# Altium footprint library 36783-1201.PcbLib: 1 footprints
Each footprint in its own frame and in the unit in brackets; x right, y up, seen from the top. Pads: shape width x height; smd on the part's side, far side on the other; paste and mask are expansions set on the pad; w line width, h text height; cw(c..) or ccw(c..) is an arc to the next point about the centre after c.
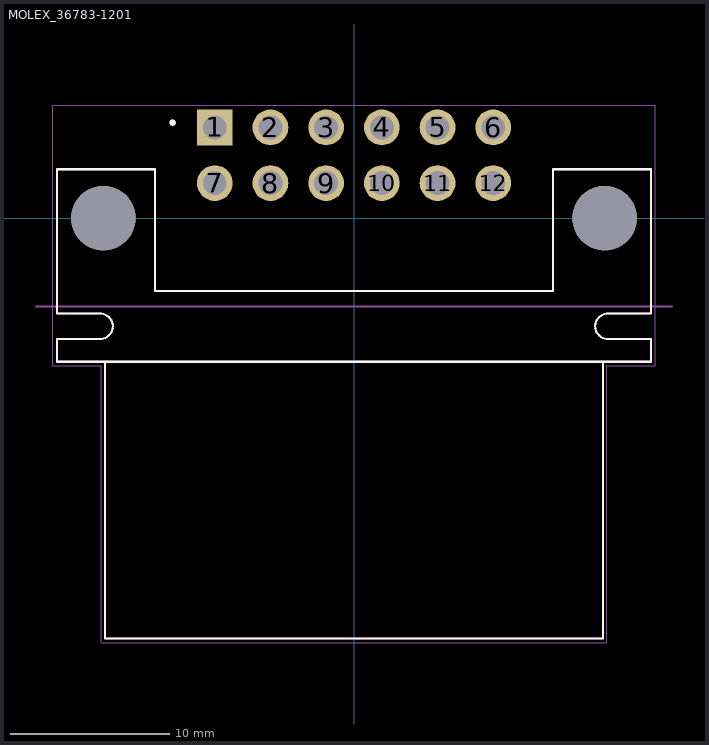
[diagram p0: the footprint, top view; thin cyan lines are the x and y axes]

## MOLEX_36783-1201 [mm]
pads (14):
  rect 2.25x2.25 hole 1.5: 1(-8.75,5.7)
  round 2.25 hole 1.5: 2(-5.25,5.7) 3(-1.75,5.7) 4(1.75,5.7) 5(5.25,5.7) 6(8.75,5.7) 7(-8.75,2.2) 8(-5.25,2.2) 9(-1.75,2.2) 10(1.75,2.2) 11(5.25,2.2) 12(8.75,2.2)
  round 4.05 hole 4.05 unplated: ""(-15.75,0) ""(15.75,0)
Top Overlay:
  circle w0.2: c-11.4,6 r0.1
  lines w0.127: -16.004,-7.6 ccw(c-15.975,-6.775) -15.15,-6.804 ; -16.004,-6 cw(c-15.975,-6.825) -15.15,-6.796 ; -16,-7.6 -18.675,-7.6 -18.675,-9.03 -15.65,-9.03 ; -16,-6 -18.675,-6 -18.675,3.07 -12.5,3.07 -12.5,-4.57 12.5,-4.57 12.5,3.07 18.675,3.07 18.675,-6 16,-6 ; 15.15,-6.804 ccw(c15.975,-6.775) 16.004,-7.6 ; 15.15,-6.796 cw(c15.975,-6.825) 16.004,-6 ; 16,-7.6 18.675,-7.6 18.675,-9.03 15.65,-9.03 ; -15.65,-9.03 15.65,-9.03 ; -15.65,-9.03 -15.65,-26.43 15.65,-26.43 15.65,-9.03
Mechanical 13:
  circle w0.2: c-11.4,6 r0.1
  lines w0.127: -20,-5.55 20,-5.55 ; -16.004,-7.6 ccw(c-15.975,-6.775) -15.15,-6.804 ; -16.004,-6 cw(c-15.975,-6.825) -15.15,-6.796 ; -16,-7.6 -18.675,-7.6 -18.675,-9.03 -15.65,-9.03 ; -16,-6 -18.675,-6 -18.675,3.07 -12.5,3.07 -12.5,-4.57 12.5,-4.57 12.5,3.07 18.675,3.07 18.675,-6 16,-6 ; 15.15,-6.804 ccw(c15.975,-6.775) 16.004,-7.6 ; 15.15,-6.796 cw(c15.975,-6.825) 16.004,-6 ; 16,-7.6 18.675,-7.6 18.675,-9.03 15.65,-9.03 ; -15.65,-9.03 15.65,-9.03 ; -15.65,-9.03 -15.65,-26.43 15.65,-26.43 15.65,-9.03
Mechanical 15:
  lines w0.05: -18.925,-9.28 -15.9,-9.28 -15.9,-26.7 15.9,-26.7 15.9,-9.28 18.925,-9.28 18.925,7.1 -18.925,7.1 -18.925,-9.28
3D body "367831201.stp": height 24.44, standoff -3.19, extent -18.669,-26.516 18.689,5.942